# Altium footprint library LED.PcbLib: 34 footprints (part 3 of 3)
Each footprint in its own frame and in the unit in brackets; x right, y up, seen from the top. Pads: shape width x height; smd on the part's side, far side on the other; paste and mask are expansions set on the pad; w line width, h text height; cw(c..) or ccw(c..) is an arc to the next point about the centre after c.
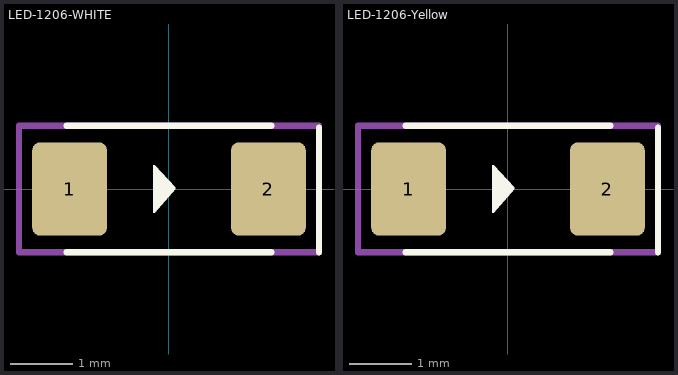
[diagram p2: the footprints below, top view; thin cyan lines are the x and y axes]

## LED-1206-WHITE [mm]
pads (2):
  rrect20% 1.2x1.5 smd: 1(-1.6,0) 2(1.6,0)
Top Overlay:
  region: -0.254,0.381 -0.229,0.381 0.102,0.025 0.102,0 -0.229,-0.381 -0.254,-0.381
  lines w0.1: -1.651,-1.016 1.651,-1.016 ; -1.651,1.016 1.651,1.016 ; 2.413,-1.016 2.413,0.984
Mechanical 13:
  lines w0.1: -2.413,-1.016 -2.413,1.016 2.413,1.016 2.413,-1.016 -2.413,-1.016
3D body: height 1.15, standoff 0.5, extent -1.06,-0.7 1.04,0.76
3D body "LED1206.STEP": height 1.1, standoff 0, extent -1.61,-0.762 1.61,0.838

## LED-1206-Yellow [mm]
pads (2):
  rrect20% 1.2x1.5 smd: 1(-1.6,0) 2(1.6,0)
Top Overlay:
  region: -0.254,0.381 -0.229,0.381 0.102,0.025 0.102,0 -0.229,-0.381 -0.254,-0.381
  lines w0.1: -1.651,-1.016 1.651,-1.016 ; -1.651,1.016 1.651,1.016 ; 2.413,-1.016 2.413,0.984
Mechanical 13:
  lines w0.1: -2.413,-1.016 2.413,-1.016 2.413,1.016 -2.413,1.016 -2.413,-1.016
3D body "LED1206.STEP": height 1.1, standoff 0, extent -1.61,-0.8 1.61,0.8
3D body: height 1.15, standoff 0.5, extent -1.05,-0.73 1.05,0.73